# EAGLE library part TLV61220 (library BaseApp)
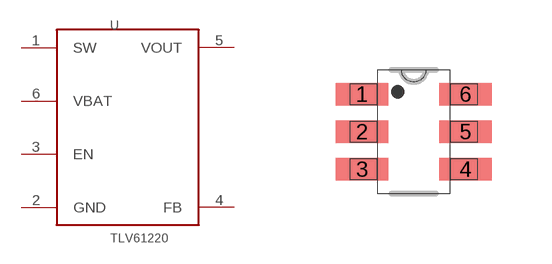
[diagram p126: symbol with the pads of SOT-23-6_MC; footprint SOT-23-6_MC]

Designator prefix -

## TLV61220  [SOT-23-6_MC]
1  SW
2  GND
3  EN
4  FB
5  VOUT
6  VBAT

## Footprint SOT-23-6_MC (pad centres in mm)
smd 1.321 x 0.559: 1 -1.295,0.94; 2 -1.295,0; 3 -1.295,-0.94; 4 1.295,-0.94; 5 1.295,0; 6 1.295,0.94